# EAGLE library part LIS3DHTR (library balmer)
Accelerometer
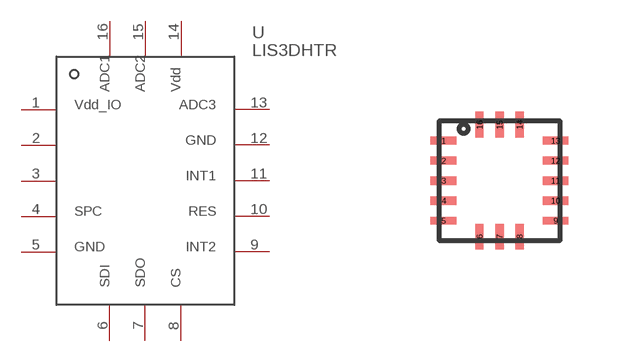
[diagram p18: symbol with the pads of HCLGA-16L; footprint HCLGA-16L]

Designator prefix -

## LIS3DHTR  [HCLGA-16L]
1  VDD_IO(1)
2  2  nc
3  3  nc
4  SPC(4)
5  GND(5)  pwr
6  SDI(6)
7  SDO(7)
8  CS(8)
9  INT2(9)
10  RES(10)  pwr
11  INT1(11)
12  GND(12)  pwr
13  ADC3(13)
14  VDD(14)  pwr
15  ADC2(15)
16  ADC1(16)

## Footprint HCLGA-16L (pad centres in mm)
smd 0.65 x 0.2: 1 -1.4,1; 2 -1.4,0.5; 3 -1.4,0; 4 -1.4,-0.5; 5 -1.4,-1; 9 1.4,-1; 10 1.4,-0.5; 11 1.4,0; 12 1.4,0.5; 13 1.4,1
smd 0.2 x 0.65: 6 -0.5,-1.4; 7 0,-1.4; 8 0.5,-1.4; 14 0.5,1.4; 15 0,1.4; 16 -0.5,1.4